# EAGLE library part 61900811021 (library Wuerth_Elektronik_eiCan_Wire_to_Board_Connectors v1.2)
WR-WTB 2.54mm Right Angled Locking Header Bottom Locking, 8 Pins
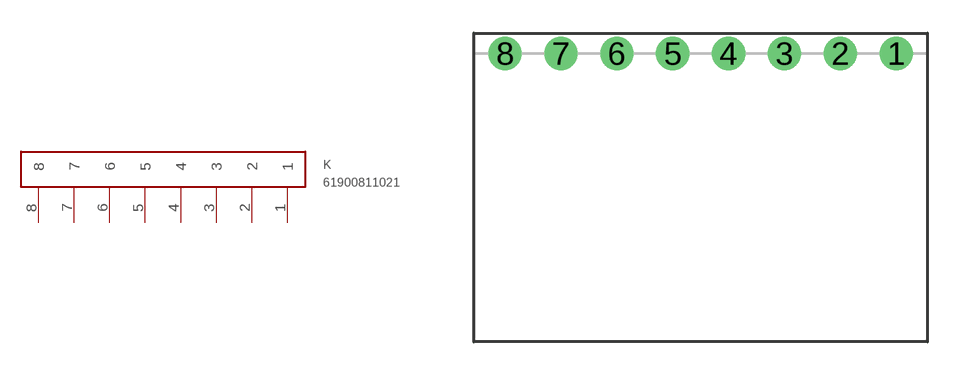
[diagram p9: symbol with the pads of 61900811021; footprint 61900811021]

Designator prefix K

## 61900811021  [61900811021]
1  1
2  2
3  3
4  4
5  5
6  6
7  7
8  8

## Footprint 61900811021 (pad centres in mm)
WR-WTB 2.54mm Right Angled Locking Header Bottom Locking, 8 Pins
drill 1 round: 1 1.27,0; 2 -1.27,0; 3 -3.81,0; 4 -6.35,0; 5 -8.89,0; 6 -11.43,0; 7 -13.97,0; 8 -16.51,0